# EAGLE library part ATSAMD10D14A (library johnmamish-atmel)
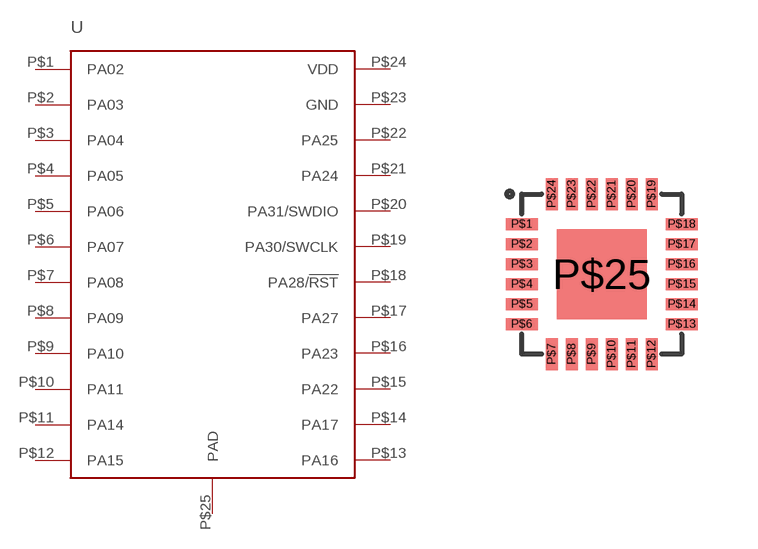
[diagram p5: symbol with the pads of QFN24_4X4MM; footprint QFN24_4X4MM]

Designator prefix -

## ATSAMD10D14A  [QFN24_4X4MM]
P$1  PA02
P$2  PA03
P$3  PA04
P$4  PA05
P$5  PA06
P$6  PA07
P$7  PA08
P$8  PA09
P$9  PA10
P$10  PA11
P$11  PA14
P$12  PA15
P$13  PA16
P$14  PA17
P$15  PA22
P$16  PA23
P$17  PA27
P$18  PA28/!RST!
P$19  PA30/SWCLK
P$20  PA31/SWDIO
P$21  PA24
P$22  PA25
P$23  GND
P$24  VDD
P$25  PAD

## Footprint QFN24_4X4MM (pad centres in mm)
smd 0.8 x 0.3: P$1 -2,1.25; P$2 -2,0.75; P$3 -2,0.25; P$4 -2,-0.25; P$5 -2,-0.75; P$6 -2,-1.25; P$13 2,-1.25; P$14 2,-0.75; P$15 2,-0.25; P$16 2,0.25; P$17 2,0.75; P$18 2,1.25
smd 0.3 x 0.8: P$7 -1.25,-2; P$8 -0.75,-2; P$9 -0.25,-2; P$10 0.25,-2; P$11 0.75,-2; P$12 1.25,-2; P$19 1.25,2; P$20 0.75,2; P$21 0.25,2; P$22 -0.25,2; P$23 -0.75,2; P$24 -1.25,2
smd 2.25 x 2.25: P$25 0,0